# Altium schematic symbol library Mini USB.SchLib: 1 symbol
Pins are listed as number, name and electrical type; pins without a type are passive.

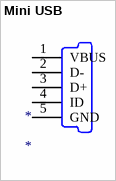
[diagram p0: symbol Mini USB]

## Mini USB
designator *
Supplier 1: Digi-Key; Supplier Part Number 1: A31727CT-ND
footprint MINI USB (Digikey http://search.digikey.com/us/en/products/1734035-2/A31727CT-ND/773789)
pins: 1 VBUS "USB Vcc [Red]", 2 D- "USB Data - [White]", 3 D+ "USB Data + [Green]", 4 ID "Not Connected (or joined to pin 5 via resistor)", 5 GND "Ground [Black]"